# Altium schematic symbol library Schlib1.SchLib: 8 symbols
Pins are listed as number, name and electrical type; pins without a type are passive.

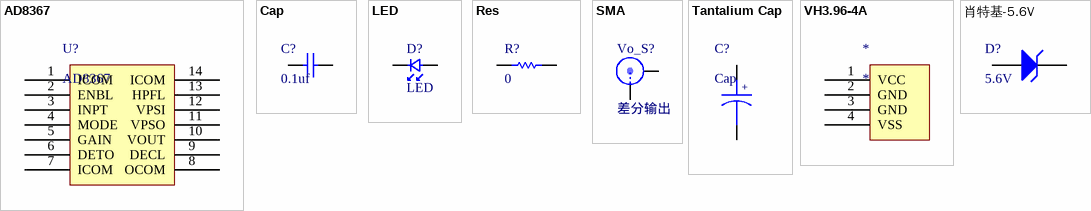
[diagram p0: symbols AD8367 to 肖特基-5.6V]

## AD8367
designator U?
pins: 1 ICOM, 2 ENBL, 3 INPT, 4 MODE, 5 GAIN, 6 DETO, 7 ICOM, 8 OCOM, 9 DECL, 10 VOUT, 11 VPSO, 12 VPSI, 13 HPFL, 14 ICOM

## Cap
designator C?, comment 0.1uf
footprint 0805
footprint 0603C
pins: 1, 2

## LED
designator D?
footprint 0805_s
pins: 1, 2

## Res
designator R?, comment 0
footprint 0805
footprint 0603R
pins: 1, 2

## SMA
designator Vo_S?, comment 差分输出
footprint SMA-LYING
footprint SMA-STAND
pins: 0, 1

## Tantalium Cap
designator C?, comment Cap
footprint 7343-31 TYPE D
pins: 1, 2
text: +

## VH3.96-4A
designator *
footprint VH3.96-4P
footprint VH3.96-4P
pins: 1 VCC, 2 GND, 3 GND, 4 VSS

## 肖特基-5.6V
designator D?, comment 5.6V
footprint SMA/DO-214AC
pins: 1 A, 2 K